# EAGLE library part TOGGLE_SWITCH (library mylib)
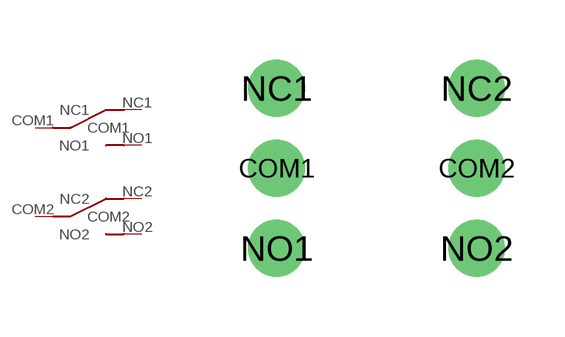
[diagram p2: symbol with the pads of 7MMX7MM; footprint 7MMX7MM]

Designator prefix -

## TOGGLE_SWITCH  [7MMX7MM]
COM1  COM1
COM2  COM2
NC1  NC1
NC2  NC2
NO1  NO1
NO2  NO2

## Footprint 7MMX7MM (pad centres in mm)
drill 0.7 pad 1.422: COM1 -2,1; COM2 3,1; NC1 -2,3; NC2 3,3; NO1 -2,-1; NO2 3,-1